# EAGLE library part AMEGA32U4 (library NixieDisplay)
8 bit 16Mhz uC with USB
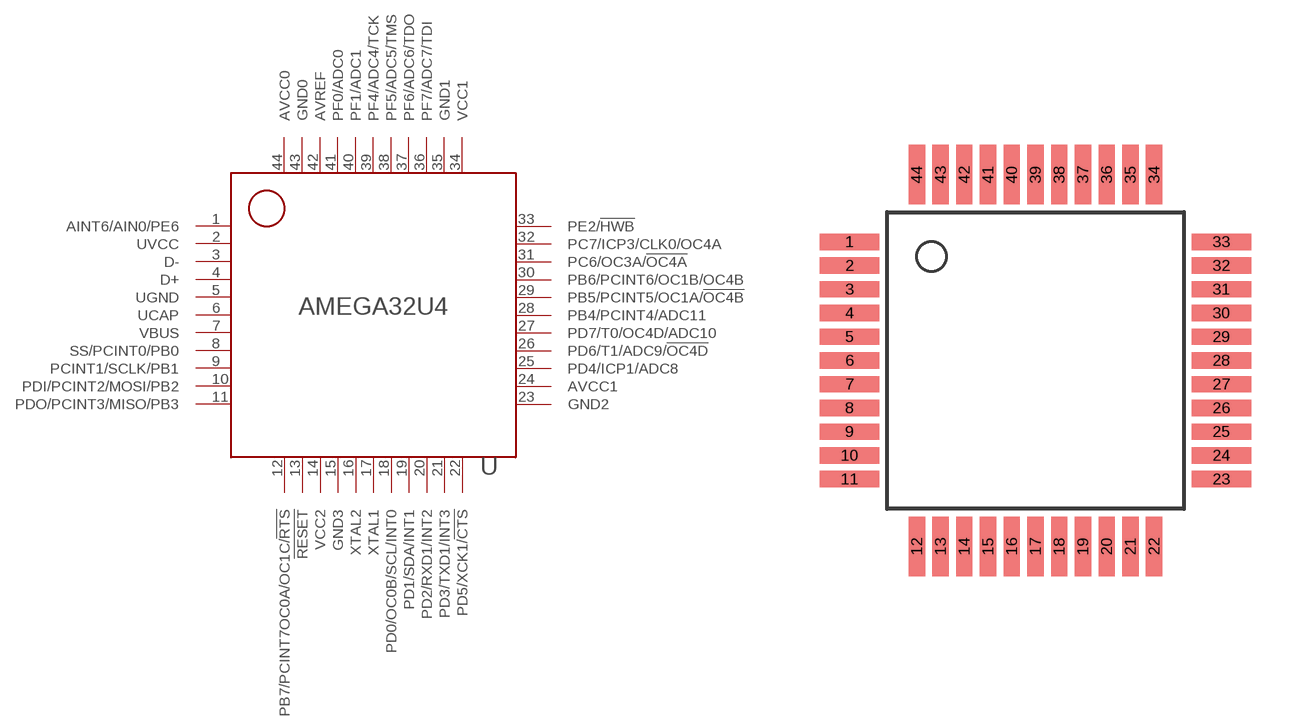
[diagram p0: symbol with the pads of TQFP44; footprint TQFP44]

Designator prefix U

## AMEGA32U4"  [TQFP44]
1  AINT6/AIN0/PE6
2  UVCC
3  D-
4  D+
5  UGND
6  UCAP
7  VBUS
8  SS/PCINT0/PB0
9  PCINT1/SCLK/PB1
10  PDI/PCINT2/MOSI/PB2
11  PDO/PCINT3/MISO/PB3
12  PB7/PCINT7OC0A/OC1C/!RTS
13  !RESET
14  VCC2
15  GND3
16  XTAL2
17  XTAL1
18  PD0/OC0B/SCL/INT0
19  PD1/SDA/INT1
20  PD2/RXD1/INT2
21  PD3/TXD1/INT3
22  PD5/XCK1/!CTS
23  GND2
24  AVCC1
25  PD4/ICP1/ADC8
26  PD6/T1/ADC9/!OC4D
27  PD7/T0/OC4D/ADC10
28  PB4/PCINT4/ADC11
29  PB5/PCINT5/OC1A/!OC4B
30  PB6/PCINT6/OC1B/OC4B
31  PC6/OC3A/!OC4A
32  PC7/ICP3/CLK0/OC4A
33  PE2/!HWB
34  VCC1
35  GND1
36  PF7/ADC7/TDI
37  PF6/ADC6/TDO
38  PF5/ADC5/TMS
39  PF4/ADC4/TCK
40  PF1/ADC1
41  PF0/ADC0
42  AVREF
43  GND0
44  AVCC0

## Footprint TQFP44 (pad centres in mm)
smd 2 x 0.55: 1 -6.265,4; 2 -6.265,3.2; 3 -6.265,2.4; 4 -6.265,1.6; 5 -6.265,0.8; 6 -6.265,0; 7 -6.265,-0.8; 8 -6.265,-1.6; 9 -6.265,-2.4; 10 -6.265,-3.2; 11 -6.265,-4; 23 6.265,-4; 24 6.265,-3.2; 25 6.265,-2.4; 26 6.265,-1.6; 27 6.265,-0.8; 28 6.265,0; 29 6.265,0.8; 30 6.265,1.6; 31 6.265,2.4; 32 6.265,3.2; 33 6.265,4
smd 0.55 x 2: 12 -4,-6.265; 13 -3.2,-6.265; 14 -2.4,-6.265; 15 -1.6,-6.265; 16 -0.8,-6.265; 17 0,-6.265; 18 0.8,-6.265; 19 1.6,-6.265; 20 2.4,-6.265; 21 3.2,-6.265; 22 4,-6.265; 34 4,6.265; 35 3.2,6.265; 36 2.4,6.265; 37 1.6,6.265; 38 0.8,6.265; 39 0,6.265; 40 -0.8,6.265; 41 -1.6,6.265; 42 -2.4,6.265; 43 -3.2,6.265; 44 -4,6.265